# Altium footprint library SOP65P810X120-33N.PcbLib: 1 footprints
Each footprint in its own frame and in the unit in brackets; x right, y up, seen from the top. Pads: shape width x height; smd on the part's side, far side on the other; paste and mask are expansions set on the pad; w line width, h text height; cw(c..) or ccw(c..) is an arc to the next point about the centre after c.
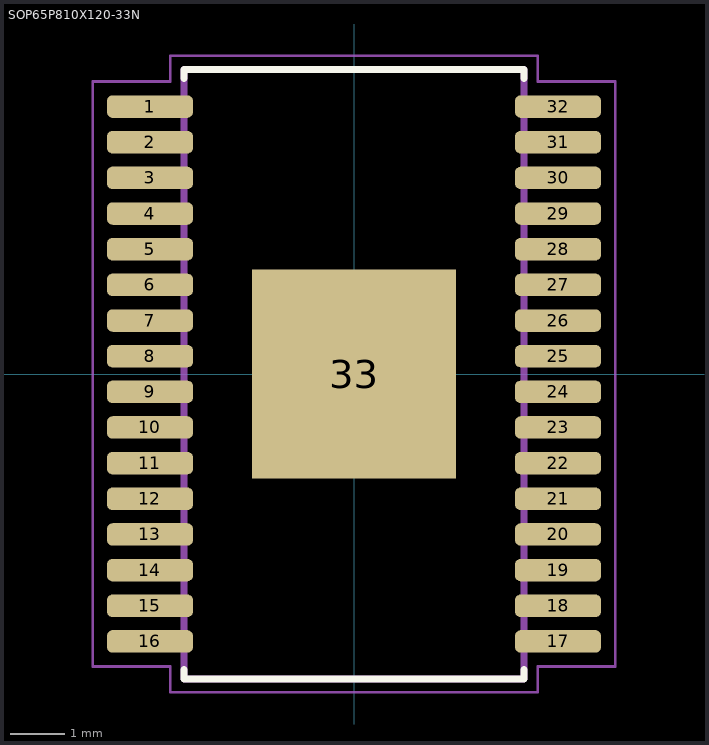
[diagram p0: the footprint, top view; thin cyan lines are the x and y axes]

## SOP65P810X120-33N [mm]
pads (33):
  rrect50% 1.57x0.41 smd: 1(-3.72,4.875) 2(-3.72,4.225) 3(-3.72,3.575) 4(-3.72,2.925) 5(-3.72,2.275) 6(-3.72,1.625) 7(-3.72,0.975) 8(-3.72,0.325) 9(-3.72,-0.325) 10(-3.72,-0.975) 11(-3.72,-1.625) 12(-3.72,-2.275) 13(-3.72,-2.925) 14(-3.72,-3.575) 15(-3.72,-4.225) 16(-3.72,-4.875) 17(3.72,-4.875) 18(3.72,-4.225) 19(3.72,-3.575) 20(3.72,-2.925) 21(3.72,-2.275) 22(3.72,-1.625) 23(3.72,-0.975) 24(3.72,-0.325) 25(3.72,0.325) 26(3.72,0.975) 27(3.72,1.625) 28(3.72,2.275) 29(3.72,2.925) 30(3.72,3.575) 31(3.72,4.225) 32(3.72,4.875)
  rect 3.71x3.81 smd paste-3: 33(0,0)
Top Overlay:
  lines w0.127: -3.099,-5.385 -3.099,-5.563 3.099,-5.563 3.099,-5.385 ; -3.099,5.385 -3.099,5.55 3.099,5.55 3.099,5.385
Top Paste:
  region: 1.485,0.185 0.185,0.185 0.185,1.535 1.485,1.535
  region: -0.185,0.185 -1.485,0.185 -1.485,1.535 -0.185,1.535
  region: -0.185,-1.535 -1.485,-1.535 -1.485,-0.185 -0.185,-0.185
  region: 1.485,-1.535 0.185,-1.535 0.185,-0.185 1.485,-0.185
Mechanical 13:
  lines w0: -3.099,-5.029 -3.099,-4.724 ; -3.099,-4.369 -3.099,-4.064 ; -3.099,-3.734 -3.099,-3.429 ; -3.099,-3.073 -3.099,-2.769 ; -3.099,-2.413 -3.099,-2.134 ; -3.099,-1.778 -3.099,-1.473 ; -3.099,-1.118 -3.099,-0.813 ; -3.099,-0.483 -3.099,-0.178 ; -3.099,0.178 -3.099,0.483 ; -3.099,0.813 -3.099,1.118 ; -3.099,1.473 -3.099,1.778 ; -3.099,2.134 -3.099,2.413 ; -3.099,2.769 -3.099,3.073 ; -3.099,3.429 -3.099,3.734 ; -3.099,4.064 -3.099,4.369 ; -3.099,4.724 -3.099,5.029 ; 3.099,-5.029 3.099,-4.724 ; 3.099,-4.369 3.099,-4.064 ; 3.099,-3.734 3.099,-3.429 ; 3.099,-3.073 3.099,-2.769 ; 3.099,-2.413 3.099,-2.134 ; 3.099,-1.778 3.099,-1.473 ; 3.099,-1.118 3.099,-0.813 ; 3.099,-0.483 3.099,-0.178 ; 3.099,0.178 3.099,0.483 ; 3.099,0.813 3.099,1.118 ; 3.099,1.473 3.099,1.778 ; 3.099,2.134 3.099,2.413 ; 3.099,2.769 3.099,3.073 ; 3.099,3.429 3.099,3.734 ; 3.099,4.064 3.099,4.369 ; 3.099,4.724 3.099,5.029
  lines w0.127: -3.099,-5.563 3.099,-5.563 3.099,5.55 -3.099,5.55 -3.099,-5.563
Mechanical 15:
  lines w0.05: -4.76,-5.33 -3.35,-5.33 -3.35,-5.8 3.35,-5.8 3.35,-5.33 4.76,-5.33 4.76,5.33 3.35,5.33 3.35,5.8 -3.35,5.8 -3.35,5.33 -4.76,5.33 -4.76,-5.33
3D body "step_temp.STEP": height 1.2, standoff 0, extent -4.05,-5.5 4.05,5.5